# EAGLE library part FTDI_SERIAL_PROGRAMMER_PORT (library Finn-lbr-rev1)
FTDI connector footprints
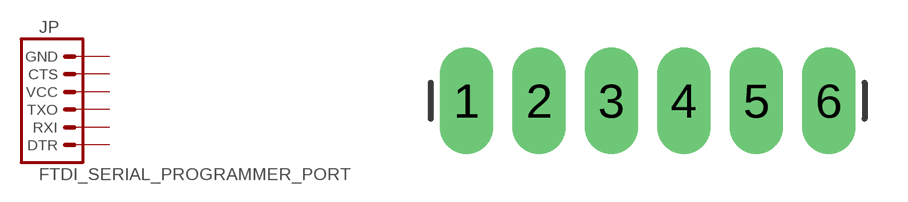
[diagram p6: symbol with the pads of 1X06_LONGPADS; footprint 1X06_LONGPADS]

Designator prefix JP

## FTDI_SERIAL_PROGRAMMER_PORTLONGPADS  [1X06_LONGPADS]
1  DTR  pas
2  RXI  pas
3  TXO  pas
4  VCC  pas
5  CTS  pas
6  GND  pas

## Footprint 1X06_LONGPADS (pad centres in mm)
drill 1.118 pad 1.88 long: 1 0,0; 2 2.54,0; 3 5.08,0; 4 7.62,0; 5 10.16,0; 6 12.7,0